# Altium footprint library RESC6332X07.PcbLib: 1 footprints
Each footprint in its own frame and in the unit in brackets; x right, y up, seen from the top. Pads: shape width x height; smd on the part's side, far side on the other; paste and mask are expansions set on the pad; w line width, h text height; cw(c..) or ccw(c..) is an arc to the next point about the centre after c.
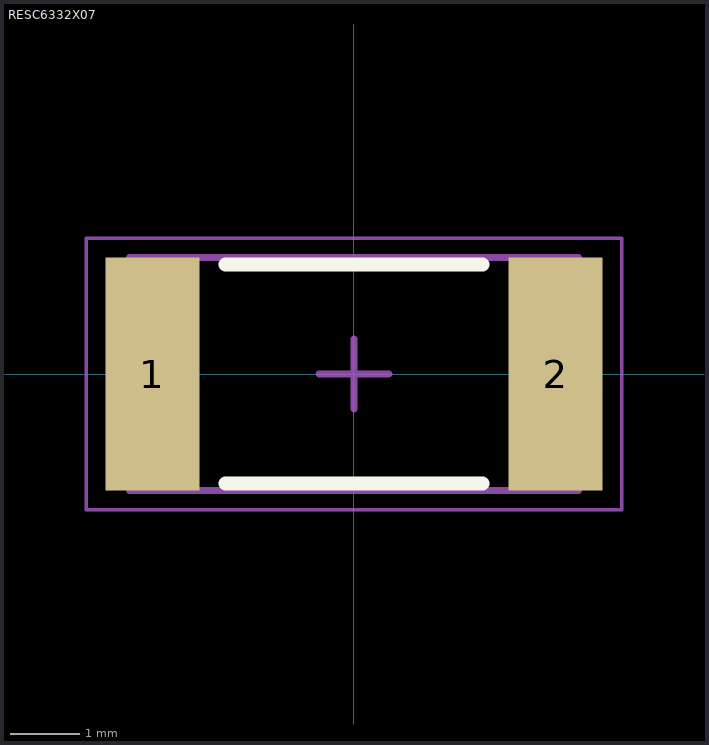
[diagram p0: the footprint, top view; thin cyan lines are the x and y axes]

## RESC6332X07 [mm] "Chip Resistor, 2-Leads, Body 6,30x3,20mm, IPC Medium Density 2512"
height 0.71
pads (2):
  rect 1.35x3.35 smd: 1(-2.9,0) 2(2.9,0)
Top Overlay:
  lines w0.2: -1.85,-1.575 1.85,-1.575 ; -1.85,1.575 1.85,1.575
3D Body:
  lines w0.1: -3.225,-1.675 3.225,-1.675 3.225,1.675 -3.225,1.675 -3.225,-1.675
Board:
  lines w0.05: -3.85,-1.95 3.85,-1.95 3.85,1.95 -3.85,1.95 -3.85,-1.95
  lines w0.1: -0.5,0 0.5,0 ; 0,-0.5 0,0.5
3D body: height 0.71, standoff 0, extent 2.625,-1.675 3.225,1.675
3D body: height 0.71, standoff 0, extent -3.225,-1.675 -2.625,1.675
3D body: height 0.71, standoff 0, extent -2.625,-1.675 2.625,1.675